# EAGLE library part DERFARM7 (library deRFmodules)
deRFarm7 IEEE 802.15.4 Low Power Wireless Radio Module Microcontroller: Atmel AT91SAM7X512 Transceiver: Atmel AT86RF212 Manufacturer: dresden elektronik ingenieurtechnik gmbh Website: http://www.dresden-elektronik.de
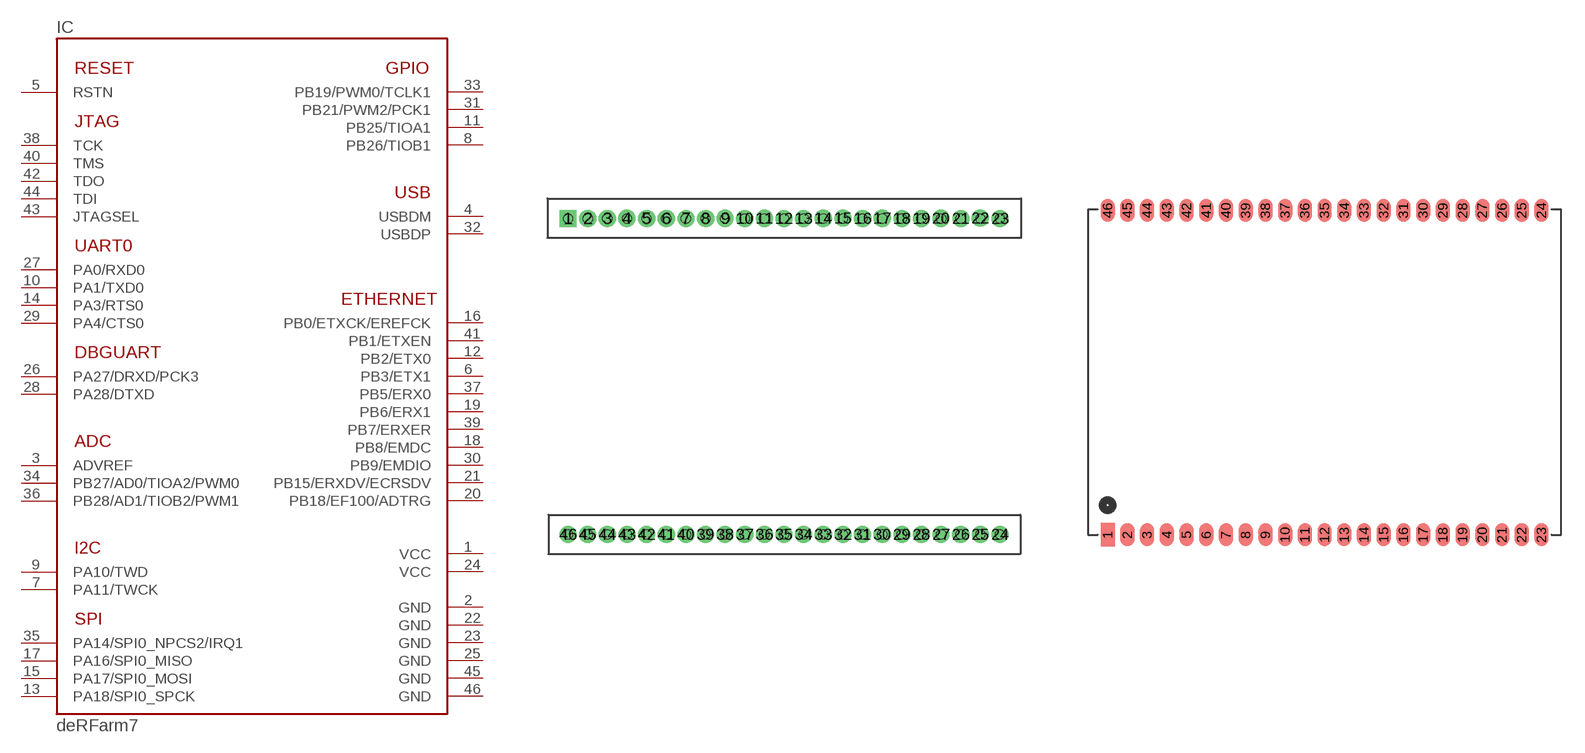
[diagram p1: symbol with the pads of A; footprints A, C]

Designator prefix IC

## DERFARM7-XXAXX  [A]
1  VCC  sup
2  GND  sup
3  ADVREF
4  USBDM
5  RSTN  in
6  PB3/ETX1
7  PA11/TWCK
8  PB26/TIOB1
9  PA10/TWD
10  PA1/TXD0
11  PB25/TIOA1
12  PB2/ETX0
13  PA18/SPI0_SPCK
14  PA3/RTS0
15  PA17/SPI0_MOSI
16  PB0/ETXCK/EREFCK
17  PA16/SPI0_MISO
18  PB8/EMDC
19  PB6/ERX1
20  PB18/EF100/ADTRG
21  PB15/ERXDV/ECRSDV
22  GND  sup
23  GND  sup
24  VCC  sup
25  GND  sup
26  PA27/DRXD/PCK3
27  PA0/RXD0
28  PA28/DTXD
29  PA4/CTS0
30  PB9/EMDIO
31  PB21/PWM2/PCK1
32  USBDP
33  PB19/PWM0/TCLK1
34  PB27/AD0/TIOA2/PWM0
35  PA14/SPI0_NPCS2/IRQ1
36  PB28/AD1/TIOB2/PWM1
37  PB5/ERX0
38  TCK  in
39  PB7/ERXER
40  TMS  in
41  PB1/ETXEN
42  TDO  out
43  JTAGSEL  in
44  TDI  in
45  GND  sup
46  GND  sup

## DERFARM7-XXCXX  [C]
Pads as for A

## Footprint A (pad centres in mm)
46pin THT package, pitch 1.27mm
drill 0.6 square: 1 -0.01,20.44
drill 0.6 pad 1.016: 2 1.28,20.45; 4 3.8,20.46
drill 0.599 pad 1.016: 3 2.54,20.45; 5 5.09,20.45; 6 6.35,20.45; 7 7.63,20.45; 8 8.91,20.45; 9 10.16,20.46; 10 11.43,20.45; 11 12.71,20.46; 12 13.97,20.45; 13 15.24,20.45; 14 16.51,20.46; 15 17.79,20.47; 16 19.06,20.45; 17 20.32,20.46; 18 21.6,20.45; 19 22.87,20.45; 20 24.12,20.46; 21 25.41,20.45; 22 26.66,20.47; 23 27.95,20.44; 24 27.94,0; 25 26.67,0; 26 25.4,0; 27 24.13,0; 28 22.86,0; 29 21.59,0; 30 20.32,0; 31 19.05,0; 32 17.78,0; 33 16.51,0; 34 15.24,0; 35 13.97,0; 36 12.7,0; 37 11.43,0; 38 10.16,0; 39 8.89,0; 40 7.62,0; 41 6.35,0; 42 5.08,0; 43 3.81,0; 44 2.54,0; 45 1.27,0; 46 0,0
hole 0.6 at 0,0
hole 0.6 at 1.27,0
hole 0.6 at 2.54,0
hole 0.6 at 2.54,0
hole 0.6 at 1.27,0
hole 0.6 at 3.81,0
hole 0.6 at 5.08,0
hole 0.6 at 6.35,0
hole 0.6 at 7.62,0
hole 0.6 at 6.35,0
hole 0.6 at 8.89,0
hole 0.6 at 10.16,0
hole 0.6 at 11.43,0
hole 0.6 at 12.7,0
hole 0.6 at 13.97,0
hole 0.6 at 15.24,0
hole 0.6 at 16.51,0
hole 0.6 at 17.78,0
hole 0.6 at 19.05,0
hole 0.6 at 20.32,0
hole 0.6 at 21.59,0
hole 0.6 at 22.86,0
hole 0.6 at 24.13,0
hole 0.6 at 25.4,0
hole 0.6 at 26.67,0
hole 0.6 at 27.94,0
hole 0.6 at 0,20.45
hole 0.6 at 1.27,20.45
hole 0.6 at 2.54,20.45
hole 0.6 at 3.81,20.45
hole 0.6 at 5.08,20.45
hole 0.6 at 6.35,20.45
hole 0.6 at 7.62,20.45
hole 0.6 at 8.89,20.45
hole 0.6 at 10.16,20.45
hole 0.6 at 11.43,20.45
hole 0.6 at 12.7,20.45
hole 0.6 at 13.97,20.45
hole 0.6 at 15.24,20.45
hole 0.6 at 16.51,20.45
hole 0.6 at 17.78,20.45
hole 0.6 at 19.05,20.45
hole 0.6 at 20.32,20.45
hole 0.6 at 21.59,20.45
hole 0.6 at 22.86,20.45
hole 0.6 at 24.13,20.45
hole 0.6 at 25.4,20.45
hole 0.6 at 26.67,20.45
hole 0.6 at 27.94,20.45

## Footprint C (pad centres in mm)
46pin SMT package, pitch 1.27mm
smd 0.9 x 1.5: 1 0,0; 2 1.27,0; 3 2.54,0; 4 3.81,0; 5 5.08,0; 6 6.35,0; 7 7.62,0; 8 8.89,0; 9 10.16,0; 10 11.43,0; 11 12.7,0; 12 13.97,0; 13 15.24,0; 14 16.51,0; 15 17.78,0; 16 19.05,0; 17 20.32,0; 18 21.59,0; 19 22.86,0; 20 24.13,0; 21 25.4,0; 22 26.67,0; 23 27.94,0; 24 27.94,20.9; 25 26.67,20.9; 26 25.4,20.9; 27 24.13,20.9; 28 22.86,20.9; 29 21.59,20.9; 30 20.32,20.9; 31 19.05,20.9; 32 17.78,20.9; 33 16.51,20.9; 34 15.24,20.9; 35 13.97,20.9; 36 12.7,20.9; 37 11.43,20.9; 38 10.16,20.9; 39 8.89,20.9; 40 7.62,20.9; 41 6.35,20.9; 42 5.08,20.9; 43 3.81,20.9; 44 2.54,20.9; 45 1.27,20.9; 46 0,20.9